# Altium schematic symbol library robot.SCHLIB: 4 symbols
Pins are listed as number, name and electrical type; pins without a type are passive.

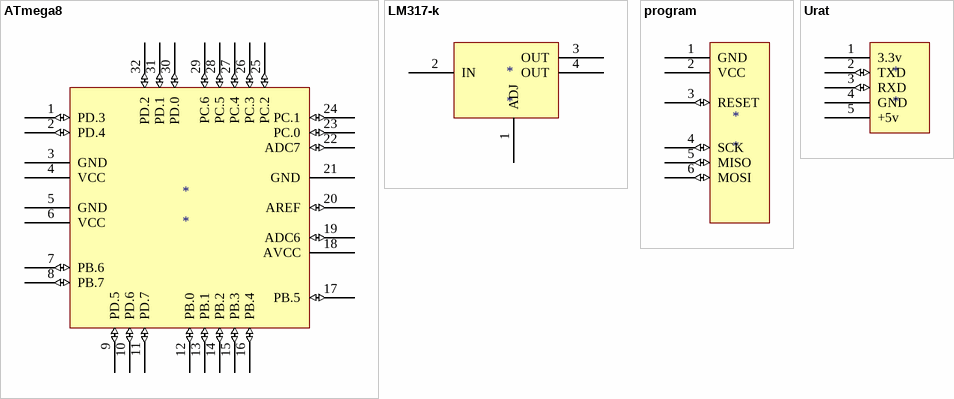
[diagram p0: symbols ATmega8 to Urat]

## ATmega8
designator *
pins: 1 PD.3 (io), 2 PD.4 (io), 3 GND (power), 4 VCC (power), 5 GND (power), 6 VCC (power), 7 PB.6 (io), 8 PB.7 (io), 9 PD.5 (io), 10 PD.6 (io), 11 PD.7 (io), 12 PB.0 (io), 13 PB.1 (io), 14 PB.2 (io), 15 PB.3 (io), 16 PB.4 (io), 17 PB.5 (io), 18 AVCC (power), 19 ADC6 (io), 20 AREF (io), 21 GND (power), 22 ADC7 (io), 23 PC.0 (io), 24 PC.1 (io), 25 PC.2 (io), 26 PC.3 (io), 27 PC.4 (io), 28 PC.5 (io), 29 PC.6 (io), 30 PD.0 (io), 31 PD.1 (io), 32 PD.2 (io)

## LM317-k
designator *
footprint LM317-k
pins: 1 ADJ (power), 2 IN (power), 3 OUT (power), 4 OUT (power)

## program
designator *
pins: 1 GND (power), 2 VCC (power), 3 RESET (io), 4 SCK (io), 5 MISO (io), 6 MOSI (io)

## Urat
designator *
pins: 1 3.3v (power), 2 TXD (io), 3 RXD (io), 4 GND (power), 5 +5v (power)